# EAGLE library part IMU (library Smartcrutches)
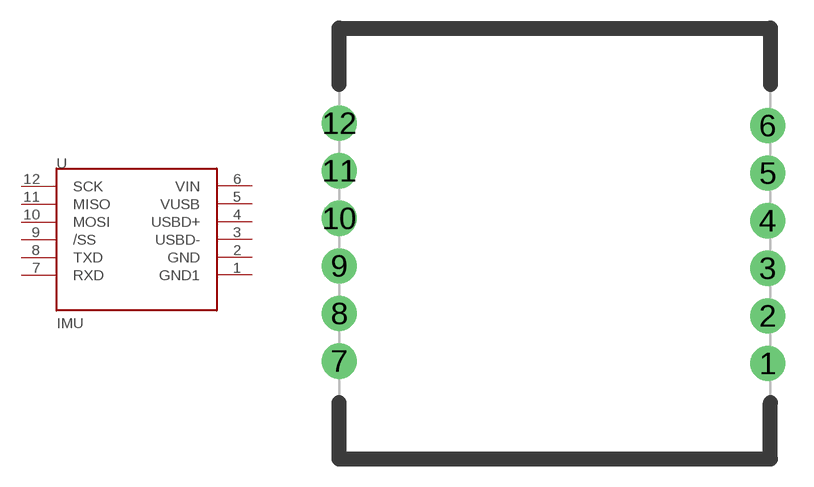
[diagram p4: symbol with the pads of IMU; footprint IMU]

Designator prefix -

## IMUIMU  [IMU]
1  GND1
2  GND
3  USBD-
4  USBD+
5  VUSB
6  VIN
7  RXD
8  TXD
9  /SS
10  MOSI
11  MISO
12  SCK

## IMU  [IMU]
Pads as for IMU

## Footprint IMU (pad centres in mm)
drill 1.016 pad 1.88: 1 22.86,-17.907; 2 22.86,-15.367; 3 22.86,-12.827; 4 22.86,-10.287; 5 22.86,-7.747; 6 22.86,-5.207; 7 0,-17.78; 8 0,-15.24; 9 0,-12.7; 10 0,-10.16; 11 0,-7.62; 12 0,-5.08